# Altium footprint library Diodes Through Hole.PcbLib: 2 footprints
Each footprint in its own frame and in the unit in brackets; x right, y up, seen from the top. Pads: shape width x height; smd on the part's side, far side on the other; paste and mask are expansions set on the pad; w line width, h text height; cw(c..) or ccw(c..) is an arc to the next point about the centre after c.
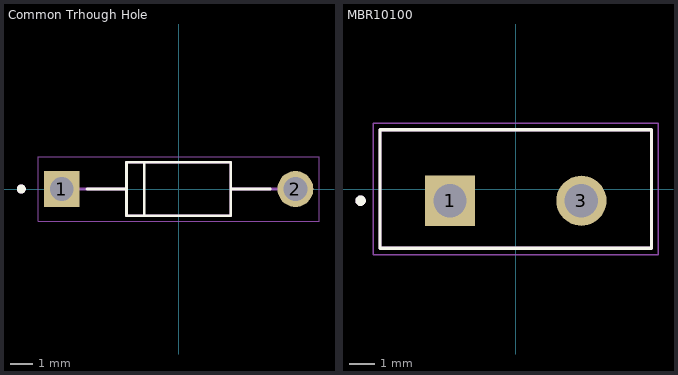
[diagram p0: the footprints below, top view; thin cyan lines are the x and y axes]

## Common Trhough Hole [mm]
height 2.72
pads (2):
  rect 1.59x1.59 / inner round 1.59 / far side rect 1.59x1.59 hole 1.06: 1(-5.18,0)
  round 1.59 hole 1.06: 2(5.18,0)
Top Overlay:
  circle w0.2: c-6.975,0 r0.1
  lines w0.127: -4.065,0 -2.315,0 ; -1.524,-1.143 -1.524,1.143 ; 4.065,0 2.315,0 ; -2.315,0 -2.315,1.188 2.315,1.188 2.315,0 ; -2.315,0 -2.315,-1.188 2.315,-1.188 2.315,0
Mechanical 13:
  circle w0.2: c-6.975,0 r0.1
  lines w0.127: -5.18,0 -2.315,0 ; 5.18,0 2.315,0 ; -2.315,0 -2.315,1.188 2.315,1.188 2.315,0 ; -2.315,0 -2.315,-1.188 2.315,-1.188 2.315,0
Mechanical 15:
  lines w0.05: -6.225,-1.438 6.225,-1.438 6.225,1.438 -6.225,1.438 -6.225,-1.438
3D body "step_temp.STEP": height 2.72, standoff -21.88, extent -5.288,-1.36 5.288,1.36

## MBR10100 [mm]
height 20.2
pads (2):
  rect 1.94x1.94 / inner round 1.94 / far side rect 1.94x1.94 hole 1.29: 1(-2.54,-0.453)
  round 1.94 hole 1.29: 3(2.54,-0.453)
Top Overlay:
  circle w0.2: c-5.997,-0.453 r0.1
  lines w0.127: -5.25,-2.295 -5.25,2.295 5.25,2.295 5.25,-2.295 -5.25,-2.295
Mechanical 13:
  circle w0.2: c-5.997,-0.453 r0.1
  lines w0.127: -5.25,-2.295 -5.25,2.295 5.25,2.295 5.25,-2.295 -5.25,-2.295
Mechanical 15:
  lines w0.05: -5.5,-2.545 -5.5,2.545 5.5,2.545 5.5,-2.545 -5.5,-2.545
3D body "step_temp.STEP": height 19.05, standoff -10.97, extent -5.112,-2.032 4.858,2.413